# Altium schematic symbol library nrj-semiconductor.SCHLIB: 1 symbol
Pins are listed as number, name and electrical type; pins without a type are passive.

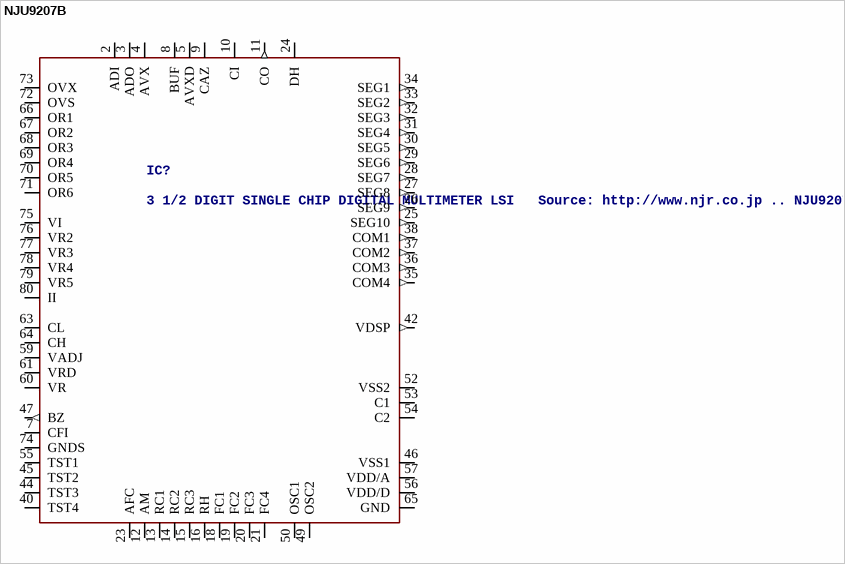
[diagram p0: symbol NJU9207B]

## NJU9207B
designator IC?, comment 3 1/2 DIGIT SINGLE CHIP DIGITAL MULTIMETER LSI   Source: http://www.njr.co.jp .. NJU9207B_E.pdf
OC_FARNELL: unknown; OC_NEWARK: unknown
footprint QFP80-C1
pins: 2 ADI, 3 ADO, 4 AVX, 5 AVXD, 7 CFI, 8 BUF, 9 CAZ, 10 CI, 11 CO (out), 12 AM, 13 RC1, 14 RC2, 15 RC3, 16 RH, 18 FC1, 19 FC2, 20 FC3, 21 FC4, 23 AFC, 24 DH, 25 SEG10 (out), 26 SEG9 (out), 27 SEG8 (out), 28 SEG7 (out), 29 SEG6 (out), 30 SEG5 (out), 31 SEG4 (out), 32 SEG3 (out), 33 SEG2 (out), 34 SEG1 (out), 35 COM4 (out), 36 COM3 (out), 37 COM2 (out), 38 COM1 (out), 40 TST4, 42 VDSP (out), 44 TST3, 45 TST2, 46 VSS1 (power), 47 BZ (out), 49 OSC2, 50 OSC1, 52 VSS2 (power), 53 C1 (power), 54 C2 (power), 55 TST1, 56 VDD/D (power), 57 VDD/A (power), 59 VADJ, 60 VR, 61 VRD, 63 CL, 64 CH, 65 GND (power), 66 OR1, 67 OR2, 68 OR3, 69 OR4, 70 OR5, 71 OR6, 72 OVS, 73 OVX, 74 GNDS, 75 VI, 76 VR2, 77 VR3, 78 VR4, 79 VR5, 80 II